# Altium schematic symbol library Coaxial Connectors (RF).SchLib: 3 symbols
Pins are listed as number, name and electrical type; pins without a type are passive.

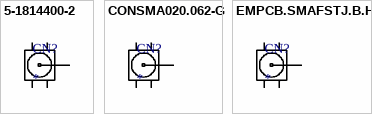
[diagram p0: symbols 5-1814400-2 to EMPCB.SMAFSTJ.B.HT]

## 5-1814400-2
designator CN?
CONN SMA JACK R/A 50 OHM PCB; Supplier 1: Digi-Key; Supplier 2: Farnell; Supplier 3: Mouser; Supplier 4: Arrow Electronics; Supplier Part Number 1: 17-5-1814400-2CT-ND; Supplier Part Number 2: 3364890; Supplier Part Number 3: 571-5-1814400-2; Supplier Part Number 4: 5-1814400-2
footprint TE_5-1814400
pins: 1, 2, 3, 4, 5

## CONSMA020.062-G
designator CN?
CONN SMA FML EDGE MNT 0.062" PCB; Supplier 1: Digi-Key; Supplier 2: Mouser; Supplier Part Number 1: 343-CONSMA020.062-G-ND; Supplier Part Number 2: 712-CONSMA020.062-G
footprint LINX_CONSMA020
pins: 1, 2, 3, 4, 5

## EMPCB.SMAFSTJ.B.HT
designator CN?
CONN SMA JACK STR 50OHM EDGE MNT; Supplier 1: Digi-Key; Supplier 2: Mouser; Supplier 3: Arrow Electronics; Supplier Part Number 1: 931-1175-ND; Supplier Part Number 2: 960-EMPCB.SMAFSTJBHT; Supplier Part Number 3: EMPCB.SMAFSTJ.B.HT
footprint TAOGLAS_EMPCB.SMAFSTJ.B.HT
pins: 1, 2, 3, 4, 5